# Altium schematic symbol library AYF531635.SchLib: 1 symbol
Pins are listed as number, name and electrical type; pins without a type are passive.

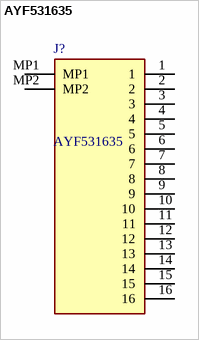
[diagram p0: symbol AYF531635]

## AYF531635
designator J?
Panasonic Y5B 0.5mm Pitch 16 Way SMT Female FPC Connector; Geometry.Height: 2.06mm; Mouser Part Number: 769-AYF531635; Mouser Price/Stock: https://www.mouser.com/Search/Refine.aspx?Keyword=769-AYF531635; Manufacturer_Name: Panasonic; Manufacturer_Part_Number: AYF531635; Datasheet Link: https://componentsearchengine.com/Datasheets/1/AYF531635.pdf
footprint AYF531635
pins: 1, 2, 3, 4, 5, 6, 7, 8, 9, 10, 11, 12, 13, 14, 15, 16, MP1, MP2